# Altium footprint library Sdkdpcblib.PcbLib: 2 footprints
Each footprint in its own frame and in the unit in brackets; x right, y up, seen from the top. Pads: shape width x height; smd on the part's side, far side on the other; paste and mask are expansions set on the pad; w line width, h text height; cw(c..) or ccw(c..) is an arc to the next point about the centre after c.
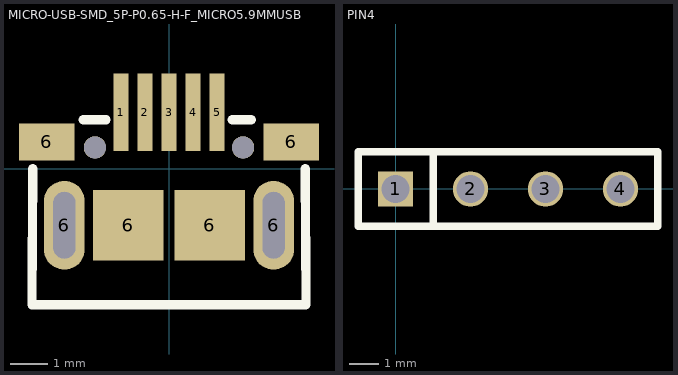
[diagram p0: the footprints below, top view; thin cyan lines are the x and y axes]

## MICRO-USB-SMD_5P-P0.65-H-F_MICRO5.9MMUSB [mm]
pads (13):
  rect 0.4x2.1 smd: 1(-1.3,1.525) 2(-0.65,1.525) 3(0,1.525) 4(0.65,1.525) 5(1.3,1.525)
  rect 1.5x1 smd: 6(-3.3,0.725) 6(3.3,0.725)
  oval 1.1x2.399 hole 0.6 slot 1.8 at 90 deg: 6(-2.825,-1.525) 6(2.825,-1.525)
  rect 1.9x1.9 smd: 6(-1.1,-1.525) 6(1.1,-1.525)
  round 0.6 hole 0.6 unplated: ""(-2,0.575) ""(2,0.575)
Top Overlay:
  lines w0.254: -3.683,0 -3.7,-3.667 3.692,-3.667 3.7,-3.659 3.683,0 ; -2.315,1.325 -1.7,1.325 ; 1.707,1.325 2.225,1.325

## PIN4 [mm]
pads (4):
  rect 1.2x1.2 hole 0.95: 1(0,0)
  round 1.2 hole 0.95: 2(2.54,0) 3(5.08,0) 4(7.62,0)
Top Overlay:
  lines w0.254: 1.27,-1.27 1.27,1.27 ; -1.27,-1.27 8.89,-1.27 8.89,1.27 -1.27,1.27 -1.27,-1.27